# EAGLE library part 61002411921 (library Wuerth_Elektronik_eiCan_Pin_&_Socked_Headers_v1.3)
WR-PHD 2.54mm SMT Socket Header, 24 Pins
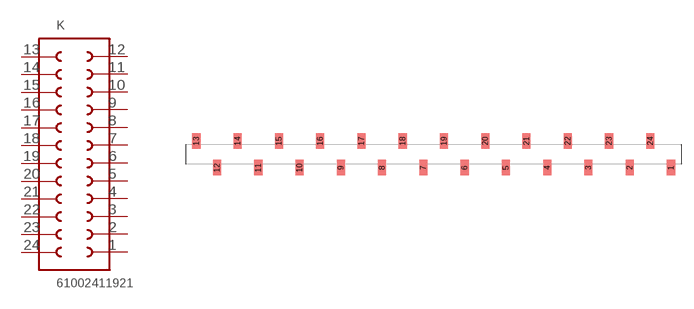
[diagram p239: symbol with the pads of 61002411921; footprint 61002411921]

Designator prefix K

## 61002411921  [61002411921]
1  13  pas
2  14  pas
3  15  pas
4  16  pas
5  17  pas
6  18  pas
7  19  pas
8  20  pas
9  21  pas
10  22  pas
11  23  pas
12  24  pas
13  1  pas
14  2  pas
15  3  pas
16  4  pas
17  5  pas
18  6  pas
19  7  pas
20  8  pas
21  9  pas
22  10  pas
23  11  pas
24  12  pas

## Footprint 61002411921 (pad centres in mm)
WR-PHD 2.54mm SMT Socket Header, 24 Pins
smd 1 x 1.91: 1 26.67,-1.645; 2 21.59,-1.645; 3 16.51,-1.645; 4 11.43,-1.645; 5 6.35,-1.645; 6 1.27,-1.645; 7 -3.81,-1.645; 8 -8.89,-1.645; 9 -13.97,-1.645; 10 -19.05,-1.645; 11 -24.13,-1.645; 12 -29.21,-1.645; 13 -31.75,1.645; 14 -26.67,1.645; 15 -21.59,1.645; 16 -16.51,1.645; 17 -11.43,1.645; 18 -6.35,1.645; 19 -1.27,1.645; 20 3.81,1.645; 21 8.89,1.645; 22 13.97,1.645; 23 19.05,1.645; 24 24.13,1.645